# EAGLE library part TBD62783 (library SSOP18)
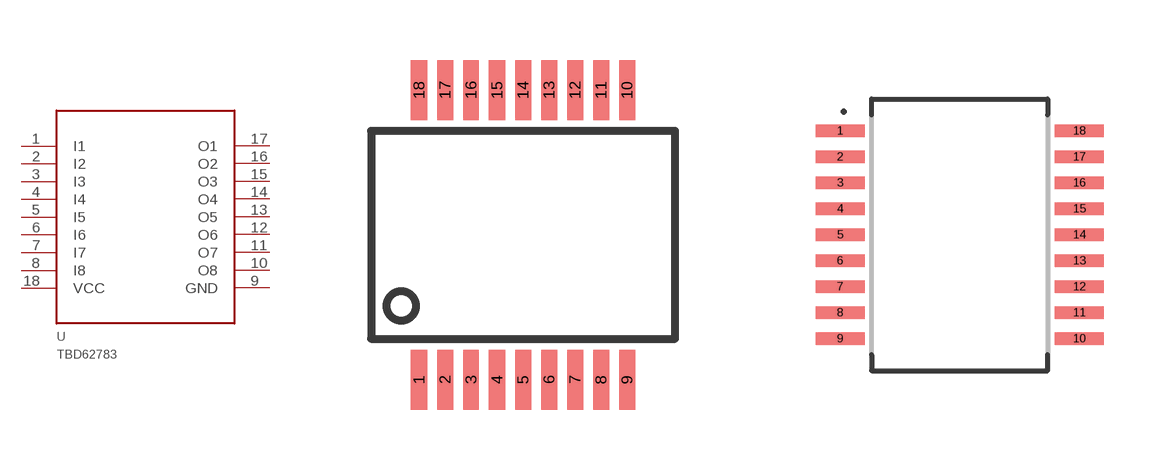
[diagram p0: symbol with the pads of SSOP18; footprints SSOP18, SOP65P640X15-18]

Designator prefix U

## TBD62783AFNG  [SSOP18]
1  I1
2  I2
3  I3
4  I4
5  I5
6  I6
7  I7
8  I8
9  GND
10  O8
11  O7
12  O6
13  O5
14  O4
15  O3
16  O2
17  O1
18  VCC

## TBD62783SSOP18AFNG  [SOP65P640X15-18]
1  I1
2  I2
3  I3
4  I4
5  I5
6  I6
7  I7
8  I8
9  VCC
10  GND
11  O8
12  O7
13  O6
14  O5
15  O4
16  O3
17  O2
18  O1

## Footprint SSOP18 (pad centres in mm)
Shrink Small Outline Package package type SS Source: ww1.microchip.com/downloads/en/DeviceDoc/39605c.pdf
smd 0.4 x 1.5: 1 -2.6,-3.625; 2 -1.95,-3.625; 3 -1.3,-3.625; 4 -0.65,-3.625; 5 0,-3.625; 6 0.65,-3.625; 7 1.3,-3.625; 8 1.95,-3.625; 9 2.6,-3.625; 10 2.6,3.625; 11 1.95,3.625; 12 1.3,3.625; 13 0.65,3.625; 14 0,3.625; 15 -0.65,3.625; 16 -1.3,3.625; 17 -1.95,3.625; 18 -2.6,3.625

## Footprint SOP65P640X15-18 (pad centres in mm)
18-SOP, 0.65 mm pitch, 6.4 mm span, 6.8 X 4.4 X 0.15 mm body 18-pin SOP package with 0.65 mm pitch, 6.4 mm span with body size 6.8 X 4.4 X 0.15 mm
smd 1.229 x 0.302: 1 -2.991,2.6; 2 -2.991,1.95; 3 -2.991,1.3; 4 -2.991,0.65; 5 -2.991,0; 6 -2.991,-0.65; 7 -2.991,-1.3; 8 -2.991,-1.95; 9 -2.991,-2.6; 10 2.991,-2.6; 11 2.991,-1.95; 12 2.991,-1.3; 13 2.991,-0.65; 14 2.991,0; 15 2.991,0.65; 16 2.991,1.3; 17 2.991,1.95; 18 2.991,2.6